# EAGLE library part TC7WH74FU (library my_ic)
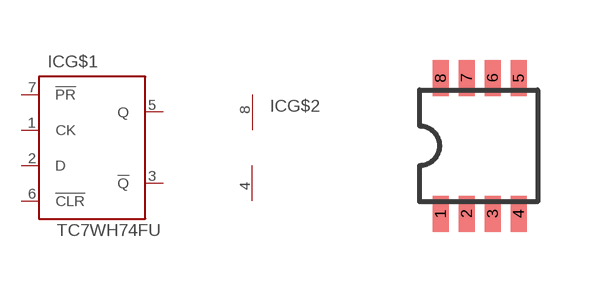
[diagram p13: symbol with the pads of SSOP8-P-0.65; footprint SSOP8-P-0.65]

Designator prefix IC; gates G$1=D-FLIPFLOP G$2=PWR+-

## TC7WH74FU  [SSOP8-P-0.65]
1  G$1:CK  in
2  G$1:D  in
3  G$1:!Q  out
4  G$2:V-  pwr
5  G$1:Q  out
6  G$1:!CLR  in
7  G$1:!PR  in
8  G$2:V+  pwr

## Footprint SSOP8-P-0.65 (pad centres in mm)
smd 0.4 x 0.9: 1 -0.975,-1.7; 2 -0.325,-1.7; 3 0.325,-1.7; 4 0.975,-1.7; 5 0.975,1.7; 6 0.325,1.7; 7 -0.325,1.7; 8 -0.975,1.7